# Altium schematic symbol library LPHT-08-16-L-RT1-GP.SchLib: 1 symbol
Pins are listed as number, name and electrical type; pins without a type are passive.

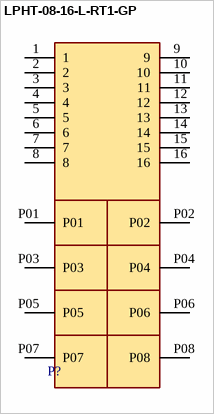
[diagram p0: symbol LPHT-08-16-L-RT1-GP]

## LPHT-08-16-L-RT1-GP
designator P?
=Description
footprint LPHT-08-16-L-RT1-GP
pins: 1, 2, 3, 4, 5, 6, 7, 8, 9, 10, 11, 12, 13, 14, 15, 16, P01, P02, P03, P04, P05, P06, P07, P08